# Altium footprint library MotorDriver.PcbLib: 1 footprints
Each footprint in its own frame and in the unit in brackets; x right, y up, seen from the top. Pads: shape width x height; smd on the part's side, far side on the other; paste and mask are expansions set on the pad; w line width, h text height; cw(c..) or ccw(c..) is an arc to the next point about the centre after c.
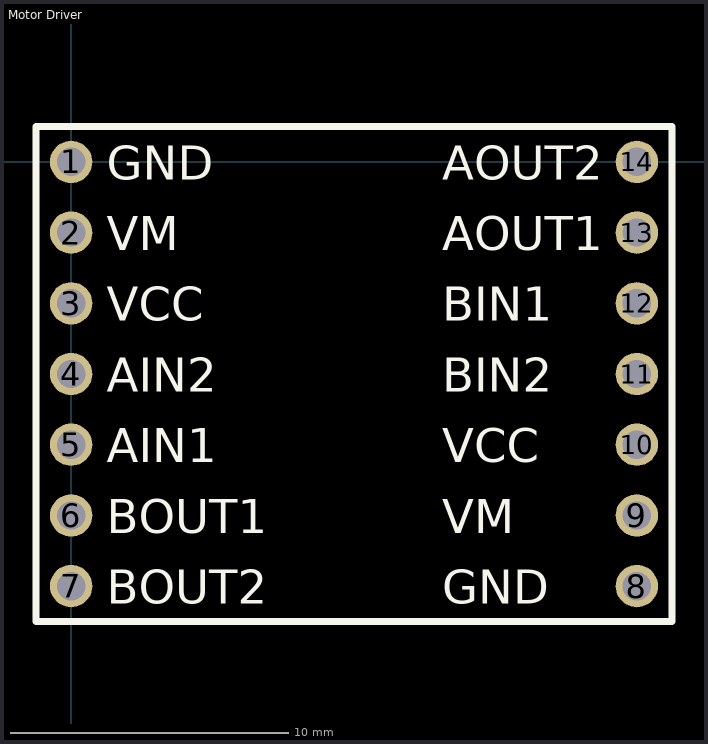
[diagram p0: the footprint, top view; thin cyan lines are the x and y axes]

## Motor Driver [mil]
pads (14):
  round 60 hole 40: 1(0,0) 2(0,-100) 3(0,-200) 4(0,-300) 5(0,-400) 6(0,-500) 7(0,-600) 8(800,-600) 9(800,-500) 10(800,-400) 11(800,-300) 12(800,-200) 13(800,-100) 14(800,0)
Top Overlay:
  lines w10: -50,-650 850,-650 850,50 -50,50 -50,-650
  text "GND" at 50,-25 h48
  text "VM" at 50,-125 h48
  text "VCC" at 50,-225 h48
  text "AIN2" at 50,-325 h48
  text "AIN1" at 50,-425 h48
  text "BOUT1" at 50,-525 h48
  text "BOUT2" at 50,-625 h48
  text "GND" at 525,-625 h48
  text "VM" at 525,-525 h48
  text "VCC" at 525,-425 h48
  text "BIN2" at 525,-325 h48
  text "BIN1" at 525,-225 h48
  text "AOUT1" at 525,-125 h48
  text "AOUT2" at 525,-25 h48